# Altium schematic symbol library ACTION_SchematicDiagramPack.SCHLIB: 158 symbols (part 2 of 2)
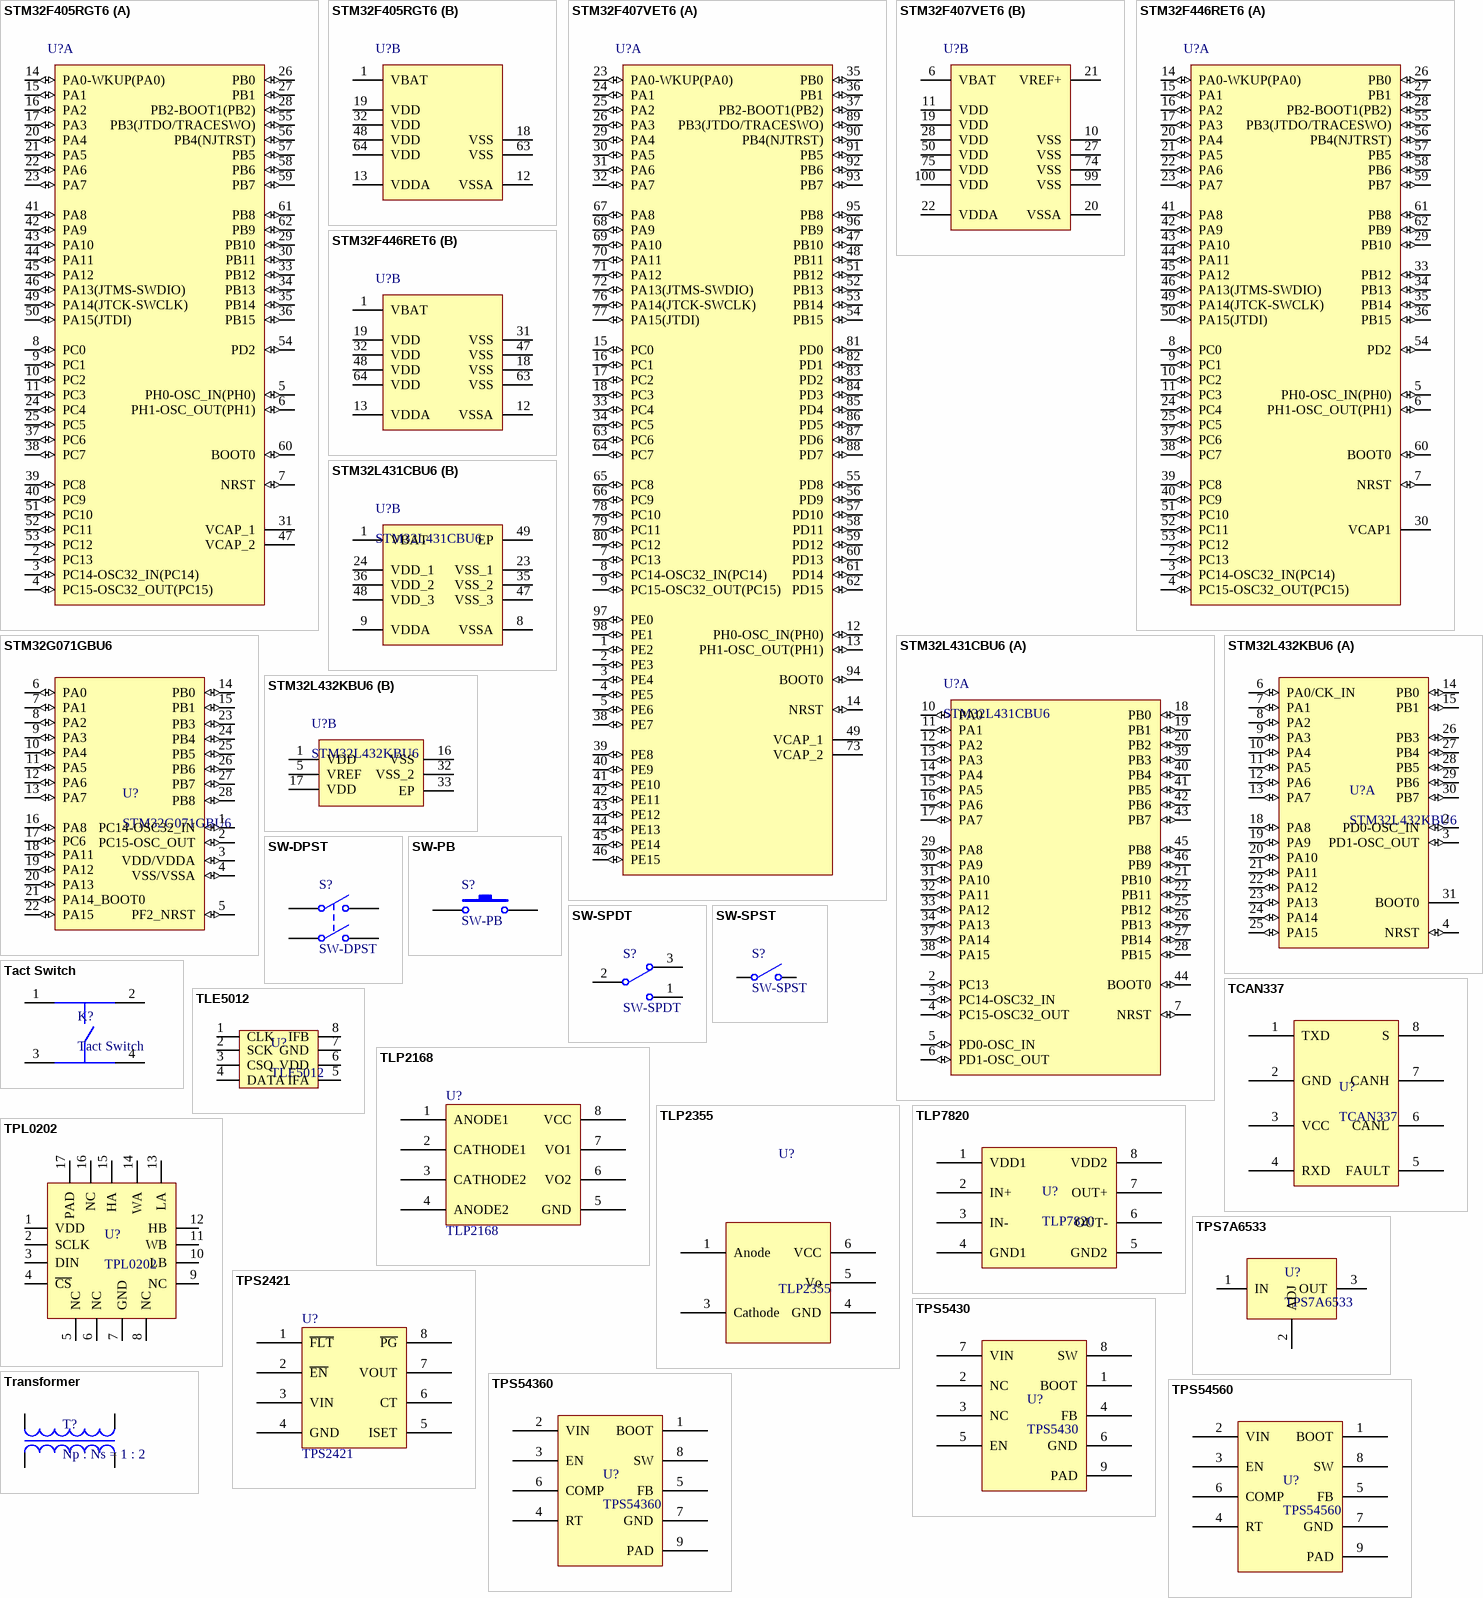
[diagram p6: symbols STM32F405RGT6 to Transformer]

## STM32F446RET6
designator U?
ARM Cortex-M4 32-bit MCU+FPU, 210 DMIPS, 256 kB Flash, 256 kB Internal RAM, 51 I/Os, 64-pin LQFP, -40 to 85 degC, Tray; ComponentLink1Description: Manufacturer URL; ComponentLink1URL: http://www.st.com/web/en/home.html; ComponentLink2Description: Datasheet; ComponentLink2URL: http://www.st.com/st-web-ui/static/active/en/resource/technical/document/datasheet/DM00037051.pdf; ComponentLink3Description: Package Specification; ComponentLink3URL: http://www.st.com/st-web-ui/static/active/en/resource/technical/document/datasheet/DM00037051.pdf
footprint STM-LQFP64_M (Thin QFP, 64-Leads, Body 10x10mm, Pitch 0.5mm, IPC Low Density)
part A pins: 2 PC13 (io) "PC13/EVENTOUT/RTC_OUT,RTC_TAMP1,RTC_TS", 3 PC14-OSC32_IN(PC14) (io) "PC14-OSC32_IN(PC14)/EVENTOUT/OSC32_IN", 4 PC15-OSC32_OUT(PC15) (io) "PC15-OSC32_OUT(PC15)/EVENTOUT/OSC32_OUT", 5 PH0-OSC_IN(PH0) (io) "PH0-OSC_IN(PH0)/EVENTOUT/OSC_IN", 6 PH1-OSC_OUT(PH1) (io) "PH1-OSC_OUT(PH1)/EVENTOUT/OSC_OUT", 7 NRST (io), 8 PC0 (io) "PC0/OTG_HS_ULPI_STP/EVENTOUT/ADC123_IN10", 9 PC1 (io) "PC1/ETH_MDC/EVENTOUT/ADC123_IN11", 10 PC2 (io) "PC2/SPI2_MISO/OTG_HS_ULPI_DIR/ETH_MII_TXD2/I2S2ext_SD/EVENTOUT/ADC123_IN12", 11 PC3 (io) "PC3/SPI2_MOSI/I2S2_SD/OTG_HS_ULPI_NXT/ETH_MII_TX_CLK/EVENTOUT/ADC123_IN13", 14 PA0-WKUP(PA0) (io) "PA0-WKUP(PA0)/USART2_CTS/UART4_TX/ETH_MII_CRS/TIM2_CH1_ETR/TIM5_CH1/TIM8_ETR/EVENTOUT/ADC123_IN0/WKUP", 15 PA1 (io) "PA1/USART2_RTS/UART4_RX/ETH_RMII_REF_CLK/ETH_MII_RX_CLK/TIM5_CH2/TIM2_CH2/EVENTOUT/ADC123_IN1", 16 PA2 (io) "PA2/USART2_TX/TIM5_CH3/TIM9_CH1/TIM2_CH3/ETH_MDIO/EVENTOUT/ADC123_IN2", 17 PA3 (io) "PA3/USART2_RX/TIM5_CH4/TIM9_CH2/TIM2_CH4/OTG_HS_ULPI_D0/ETH_MII_COL/EVENTOUT/ADC123_IN3", 20 PA4 (io) "PA4/SPI1_NSS/SPI3_NSS/USART2_CK/DCMI_HSYNC/OTG_HS_SOF/I2S3_WS/EVENTOUT/ADC12_IN4/DAC_OUT1", 21 PA5 (io) "PA5/SPI1_SCK/OTG_HS_ULPI_CK/TIM2_CH1_ETR/TIM8_CH1N/EVENTOUT/ADC12_IN5/DAC_OUT2", 22 PA6 (io) "PA6/SPI1_MISO/TIM8_BKIN/TIM13_CH1/DCMI_PIXCLK/TIM3_CH1/TIM1_BKIN/EVENTOUT/ADC12_IN6", 23 PA7 (io) "PA7/SPI1_MOSI/TIM8_CH1N/TIM14_CH1/TIM3_CH2/ETH_MII_RX_DV/TIM1_CH1N/ETH_RMII_CRS_DV/EVENTOUT/ADC12_IN7", 24 PC4 (io) "PC4/ETH_RMII_RX_D0/ETH_MII_RX_D0/EVENTOUT/ADC12_IN14", 25 PC5 (io) "PC5/ETH_RMII_RX_D1/ETH_MII_RX_D1/EVENTOUT/ADC12_IN15", 26 PB0 (io) "PB0/TIM3_CH3/TIM8_CH2N/OTG_HS_ULPI_D1/ETH_MII_RXD2/TIM1_CH2N/EVENTOUT/ADC12_IN8", 27 PB1 (io) "PB1/TIM3_CH4/TIM8_CH3N/OTG_HS_ULPI_D2/ETH_MII_RXD3/TIM1_CH3N/EVENTOUT/ADC12_IN9", 28 PB2-BOOT1(PB2) (io) "PB2-BOOT1(PB2)/EVENTOUT", 29 PB10 (io) "PB10/SPI2_SCK/I2S2_CK/I2C2_SCL/USART3_TX/OTG_HS_ULPI_D3/ETH_MII_RX_ER/TIM2_CH3/EVENTOUT", 30 VCAP1 "PB11/I2C2_SDA/USART3_RX/OTG_HS_ULPI_D4/ETH_RMII_TX_EN/ETH_MII_TX_EN/TIM2_CH4/EVENTOUT", 33 PB12 (io) "PB12/SPI2_NSS/I2S2_WS/I2C2_SMBA/USART3_CK/TIM1_BKIN/CAN2_RX/OTG_HS_ULPI_D5/ETH_RMII_TXD0/ETH_MII_TXD0/OTG_HS_ID/EVENTOUT", 34 PB13 (io) "PB13/SPI2_SCK/I2S2_CK/USART3_CTS/TIM1_CH1N/CAN2_TX/OTG_HS_ULPI_D6/ETH_RMII_TXD1/ETH_MII_TXD1/EVENTOUT/OTG_HS_VBUS", 35 PB14 (io) "PB14/SPI2_MISO/TIM1_CH2N/TIM12_CH1/OTG_HS_DM/USART3_RTS/TIM8_CH2N/I2S2ext_SD/EVENTOUT", 36 PB15 (io) "PB15/SPI2_MOSI/I2S2_SD/TIM1_CH3N/TIM8_CH3N/TIM12_CH2/OTG_HS_DP/EVENTOUT/RTC_REFIN", 37 PC6 (io) "PC6/I2S2_MCK/TIM8_CH1/SDIO_D6/USART6_TX/DCMI_D0/TIM3_CH1/EVENTOUT", 38 PC7 (io) "PC7/I2S3_MCK/TIM8_CH2/SDIO_D7/USART6_RX/DCMI_D1/TIM3_CH2/EVENTOUT", 39 PC8 (io) "PC8/TIM8_CH3/SDIO_D0/TIM3_CH3/USART6_CK/DCMI_D2/EVENTOUT", 40 PC9 (io) "PC9/I2S_CKIN/MCO2/TIM8_CH4/SDIO_D1/I2C3_SDA/DCMI_D3/TIM3_CH4/EVENTOUT", 41 PA8 (io) "PA8/MCO1/USART1_CK/TIM1_CH1/I2C3_SCL/OTG_FS_SOF/EVENTOUT", 42 PA9 (io) "PA9/USART1_TX/TIM1_CH2/I2C3_SMBA/DCMI_D0/EVENTOUT/OTG_FS_VBUS", 43 PA10 (io) "PA10/USART1_RX/TIM1_CH3/OTG_FS_ID/DCMI_D1/EVENTOUT", 44 PA11 (io) "PA11/USART1_CTS/CAN1_RX/TIM1_CH4/OTG_FS_DM/EVENTOUT", 45 PA12 (io) "PA12/USART1_RTS/CAN1_TX/TIM1_ETR/OTG_FS_DP/EVENTOUT", 46 PA13(JTMS-SWDIO) (io) "PA13(JTMS-SWDIO)/JTMS-SWDIO/EVENTOUT", 49 PA14(JTCK-SWCLK) (io) "PA14(JTCK-SWCLK)/JTCK-SWCLK/EVENTOUT", 50 PA15(JTDI) (io) "PA15(JTDI)/JTDI/SPI3_NSS/I2S3_WS/TIM2_CH1_ETR/SPI1_NSS/EVENTOUT", 51 PC10 (io) "PC10/SPI3_SCK/I2S3_CK/UART4_TX/SDIO_D2/DCMI_D8/USART3_TX/EVENTOUT", 52 PC11 (io) "PC11/UART4_RX/SPI3_MISO/SDIO_D3/DCMI_D4/USART3_RX/I2S3ext_SD/EVENTOUT", 53 PC12 (io) "PC12/UART5_TX/SDIO_CK/DCMI_D9/SPI3_MOSI/I2S3_SD/USART3_CK/EVENTOUT", 54 PD2 (io) "PD2/TIM3_ETR/UART5_RX/SDIO_CMD/DCMI_D11/EVENTOUT", 55 PB3(JTDO/TRACESWO) (io) "PB3(JTDO/TRACESWO)/JTDO/TRACESWO/SPI3_SCK/I2S3_CK/TIM2_CH2/SPI1_SCK/EVENTOUT", 56 PB4(NJTRST) (io) "PB4(NJTRST)/NJTRST/SPI3_MISO/TIM3_CH1/SPI1_MISO/I2S3ext_SD/EVENTOUT", 57 PB5 (io) "PB5/I2C1_SMBA/CAN2_RX/OTG_HS_ULPI_D7/ETH_PPS_OUT/TIM3_CH2/SPI1_MOSI/SPI3_MOSI/DCMI_D10/I2S3_SD/EVENTOUT", 58 PB6 (io) "PB6/I2C1_SCL/TIM4_CH1/CAN2_TX/DCMI_D5/USART1_TX/EVENTOUT", 59 PB7 (io) "PB7/I2C1_SDA/FSMC_NL/DCMI_VSYNC/USART1_RX/TIM4_CH2/EVENTOUT", 60 BOOT0 (io) "BOOT0/VPP", 61 PB8 (io) "PB8/TIM4_CH3/SDIO_D4/TIM10_CH1/DCMI_D6/ETH_MII_TXD3/I2C1_SCL/CAN1_RX/EVENTOUT", 62 PB9 (io) "PB9/SPI2_NSS/I2S2_WS/TIM4_CH4/TIM11_CH1/SDIO_D5/DCMI_D7/I2C1_SDA/CAN1_TX/EVENTOUT"
part B pins: 1 VBAT (power), 12 VSSA (power), 13 VDDA (power), 18 VSS (power), 19 VDD (power), 31 VSS (power) "VCAP_1", 32 VDD (power), 47 VSS (power) "VCAP_2", 48 VDD (power), 63 VSS (power), 64 VDD (power)

## STM32G071GBU6
designator U?
ARM Cortex-M0 32-bit MCU,  128 kB Flash, 36 kB Internal RAM, 25 I/Os, 28-pin LQFP, -40 to 85 degC, Tray
pins: 1 PC14-OSC32_IN (io) "PD0/OSC_IN/CANRX", 2 PC15-OSC_OUT (io) "PD1/OSC_OUT/CANTX", 3 VDD/VDDA (io) "PD1/OSC_OUT/CANTX", 4 VSS/VSSA (io) "PD1/OSC_OUT/CANTX", 5 PF2_NRST (io) "NRST", 6 PA0 (io) "PA0-WKUP/PA0/WKUP/USART2_CTS/ADC12_IN0/TIM2_CH1_ETR", 7 PA1 (io) "PA1/USART2_RTS/ADC12_IN1/TIM2_CH2", 8 PA2 (io) "PA2/USART2_TX/ADC12_IN2/TIM2_CH3", 9 PA3 (io) "PA3/USART2_RX/ADC12_IN3/TIM2_CH4", 10 PA4 (io) "PA4/SPI1_NSS/USART2_CK/ADC12_IN4", 11 PA5 (io) "PA5/SPI1_SCK/ADC12_IN5", 12 PA6 (io) "PA6/SPI1_MISO/ADC12_IN6/TIM3_CH1/TIM1_BKIN", 13 PA7 (io) "PA7/SPI1_MOSI/ADC12_IN7/TIM3_CH2/TIM1_CH1N", 14 PB0 (io) "PB0/ADC12_IN8/TIM3_CH3/TIM1_CH2N", 15 PB1 (io) "PB1/ADC12_IN9/TIM3_CH4/TIM1_CH3N", 16 PA8 (io) "PA8/USART1_CK/TIM1_CH1/MCO", 17 PC6 (io) "PA8/USART1_CK/TIM1_CH1/MCO", 18 PA11 (io) "PA11/USART1_CTS/CANRX/USBDM/TIM1_CH4", 19 PA12 (io) "PA12/USART1_RTS/CANTX/USBDP/TIM1_ETR", 20 PA13 (io) "PA13/JTMS/SWDIO", 21 PA14_BOOT0 (io) "PA14/JTCK/SWCLK", 22 PA15 (io) "PA15/JTDI/TIM2_CH1_ETR/SPI1_NSS", 23 PB3 (io) "PB3/JTDO/TIM2_CH2/TRACESWO/SPI1_SCK", 24 PB4 (io) "PB4/NJTRST/TIM3_CH1/SPI1_MISO", 25 PB5 (io) "PB5/I2C1_SMBAI/TIM3_CH2/SPI1_MOSI", 26 PB6 (io) "PB6/I2C1_SCL/TIM4_CH1/USART1_TX", 27 PB7 (io) "PB7/I2C1_SDA/TIM4_CH2/USART1_RX", 28 PB8 (io) "PB7/I2C1_SDA/TIM4_CH2/USART1_RX"

## STM32L431CBU6
designator U?
ARM Cortex-M3 32-bit MCU, 256 KB Flash, 64 KB Internal RAM, 37 I/Os, 48-pin UFQFPN48, -40 to 85 degC, Tray
footprint STM-UFQFPN48_M (QFN, 48-Leads, Body 7.1x7.1mm, Pitch 0.5mm, Thermal Pad 5.6x5.6mm, IPC Low Density)
part A pins: 2 PC13 (io) "PC13-TAMPER-RTC/PC13/TAMPER-RTC", 3 PC14-OSC32_IN (io) "PC14-OSC32_IN/PC14/OSC32_IN", 4 PC15-OSC32_OUT (io) "PC15-OSC32_OUT/PC15/OSC32_OUT", 5 PD0-OSC_IN (io) "PD0/OSC_IN", 6 PD1-OSC_OUT (io) "PD1/OSC_OUT", 7 NRST (io), 10 PA0 (io) "PA0-WKUP/PA0/WKUP/USART2_CTS/ADC12_IN0/TIM2_CH1_ETR", 11 PA1 (io) "PA1/USART2_RTS/ADC12_IN1/TIM2_CH2", 12 PA2 (io) "PA2/USART2_TX/ADC12_IN2/TIM2_CH3", 13 PA3 (io) "PA3/USART2_RX/ADC12_IN3/TIM2_CH4", 14 PA4 (io) "PA4/SPI1_NSS/USART2_CK/ADC12_IN4", 15 PA5 (io) "PA5/SPI1_SCK/ADC12_IN5", 16 PA6 (io) "PA6/SPI1_MISO/ADC12_IN6/TIM3_CH1/TIM1_BKIN", 17 PA7 (io) "PA7/SPI1_MOSI/ADC12_IN7/TIM3_CH2/TIM1_CH1N", 18 PB0 (io) "PB0/ADC12_IN8/TIM3_CH3/TIM1_CH2N", 19 PB1 (io) "PB1/ADC12_IN9/TIM3_CH4/TIM1_CH3N", 20 PB2 (io) "PB2/BOOT1", 21 PB10 (io) "PB10/I2C2_SCL/USART3_TX/TIM2_CH3", 22 PB11 (io) "PB11/I2C2_SDA/USART3_RX/TIM2_CH4", 25 PB12 (io) "PB12/SPI2_NSS/I2C2_SMBAl/USART3_CK/TIM1_BKIN", 26 PB13 (io) "PB13/SPI2_SCK/USART3_CTS/TIM1_CH1N", 27 PB14 (io) "PB14/SPI2_MISO/USART3_RTS/TIM1_CH2N", 28 PB15 (io) "PB15/SPI2_MOSI/TIM1_CH3N", 29 PA8 (io) "PA8/USART1_CK/TIM1_CH1/MCO", 30 PA9 (io) "PA9/USART1_TX/TIM1_CH2", 31 PA10 (io) "PA10/USART1_RX/TIM1_CH3", 32 PA11 (io) "PA11/USART1_CTS/CANRX/USBDM/TIM1_CH4", 33 PA12 (io) "PA12/USART1_RTS/CANTX/USBDP/TIM1_ETR", 34 PA13 (io) "PA13/JTMS/SWDIO", 37 PA14 (io) "PA14/JTCK/SWCLK", 38 PA15 (io) "PA15/JTDI/TIM2_CH1_ETR/SPI1_NSS", 39 PB3 (io) "PB3/JTDO/TIM2_CH2/TRACESWO/SPI1_SCK", 40 PB4 (io) "PB4/NJTRST/TIM3_CH1/SPI1_MISO", 41 PB5 (io) "PB5/I2C1_SMBAI/TIM3_CH2/SPI1_MOSI", 42 PB6 (io) "PB6/I2C1_SCL/TIM4_CH1/USART1_TX", 43 PB7 (io) "PB7/I2C1_SDA/TIM4_CH2/USART1_RX", 44 BOOT0 (io), 45 PB8 (io) "PB8/TIM4_CH3/I2C1_SCL/CANRX", 46 PB9 (io) "PB9/TIM4_CH4/I2C1_SDA/CANTX"
part B pins: 1 VBAT (power), 8 VSSA (power), 9 VDDA (power), 23 VSS_1 (power), 24 VDD_1 (power), 35 VSS_2 (power), 36 VDD_2 (power), 47 VSS_3 (power), 48 VDD_3 (power), 49 EP (power) "VSS_1"

## STM32L432KBU6
designator U?
ARM Cortex-M4 32-bit MCU+FPU, 100DMIPS,256 KB Flash, 64 KB Internal RAM, 24 I/Os, 32-pin UFQFPN32, -40 to 85 degC, Tray
part A pins: 2 PD0-OSC_IN (io) "PD0/OSC_IN/CANRX", 3 PD1-OSC_OUT (io) "PD1/OSC_OUT/CANTX", 4 NRST (io), 6 PA0/CK_IN (io) "PA0-WKUP/PA0/WKUP/USART2_CTS/ADC12_IN0/TIM2_CH1_ETR", 7 PA1 (io) "PA1/USART2_RTS/ADC12_IN1/TIM2_CH2", 8 PA2 (io) "PA2/USART2_TX/ADC12_IN2/TIM2_CH3", 9 PA3 (io) "PA3/USART2_RX/ADC12_IN3/TIM2_CH4", 10 PA4 (io) "PA4/SPI1_NSS/USART2_CK/ADC12_IN4", 11 PA5 (io) "PA5/SPI1_SCK/ADC12_IN5", 12 PA6 (io) "PA6/SPI1_MISO/ADC12_IN6/TIM3_CH1/TIM1_BKIN", 13 PA7 (io) "PA7/SPI1_MOSI/ADC12_IN7/TIM3_CH2/TIM1_CH1N", 14 PB0 (io) "PB0/ADC12_IN8/TIM3_CH3/TIM1_CH2N", 15 PB1 (io) "PB1/ADC12_IN9/TIM3_CH4/TIM1_CH3N", 18 PA8 (io) "PA8/USART1_CK/TIM1_CH1/MCO", 19 PA9 (io) "PA9/USART1_TX/TIM1_CH2", 20 PA10 (io) "PA10/USART1_RX/TIM1_CH3", 21 PA11 (io) "PA11/USART1_CTS/CANRX/USBDM/TIM1_CH4", 22 PA12 (io) "PA12/USART1_RTS/CANTX/USBDP/TIM1_ETR", 23 PA13 (io) "PA13/JTMS/SWDIO", 24 PA14 (io) "PA14/JTCK/SWCLK", 25 PA15 (io) "PA15/JTDI/TIM2_CH1_ETR/SPI1_NSS", 26 PB3 (io) "PB3/JTDO/TIM2_CH2/TRACESWO/SPI1_SCK", 27 PB4 (io) "PB4/NJTRST/TIM3_CH1/SPI1_MISO", 28 PB5 (io) "PB5/I2C1_SMBAI/TIM3_CH2/SPI1_MOSI", 29 PB6 (io) "PB6/I2C1_SCL/TIM4_CH1/USART1_TX", 30 PB7 (io) "PB7/I2C1_SDA/TIM4_CH2/USART1_RX", 31 BOOT0
part B pins: 1 VDD (power) "VDD_1", 5 VREF (power) "VDD_2", 16 VSS (power) "VSS_1", 17 VDD (power) "VDD_3", 32 VSS_2 (power), 33 EP (power)

## SW-DPST
designator S?
Double-Pole, Single-Throw Switch; Published: 24-Mar-1999; LatestRevisionDate: 17-Jul-2002; LatestRevisionNote: Re-released for DXP Platform.; PackageReference: DPST-4; Publisher: Altium Limited
pins: 1 COMMON1, 2 NO1, 3 COMMON2, 4 NO2

## SW-PB
designator S?
Switch; Published: 24-Mar-1999; LatestRevisionDate: 17-Jul-2002; LatestRevisionNote: Re-released for DXP Platform.; PackageReference: SPST-2; Publisher: Altium Limited
pins: 1, 2

## SW-SPDT
designator S?
SPDT Subminiature Toggle Switch, Right Angle Mounting, Vertical Actuation; Published: 24-Mar-1999; LatestRevisionDate: 17-Dec-2003; LatestRevisionNote: Schematic revised, PCB Footprint replaced.; DatasheetDocument: 05-Dec-2000; PackageReference: TL36WW15050; Publisher: Altium Limited; ComponentLink1Description: Manufacturer Link; ComponentLink1URL: http://www.apem.com
pins: 1, 2, 3

## SW-SPST
designator S?
Single-Pole, Single-Throw Switch; Published: 24-Mar-1999; LatestRevisionDate: 17-Jul-2002; LatestRevisionNote: Re-released for DXP Platform.; PackageReference: SPST-2; Publisher: Altium Limited
pins: 1 COMMON, 2 NO

## Tact Switch
designator K?
轻触开关(4Pin)
pins: 1, 2, 3, 4

## TCAN337
designator U?
CAN收发器
footprint SOT-238
pins: 1 TXD, 2 GND, 3 VCC, 4 RXD, 5 FAULT, 6 CANL, 7 CANH, 8 S

## TLE5012
designator U?
磁编码器
footprint SOP-8(无散热焊盘) (SOP, 8-Leads, Body 5.0x4.0mm (max), Pitch 1.27mm, IPC Medium Density)
pins: 1 CLK, 2 SCK, 3 CSQ, 4 DATA, 5 IFA, 6 VDD, 7 GND, 8 IFB

## TLP2168
designator U?
高速光耦，(LED  ON,  OUTPUT  LOW)  Supply voltage: 2.7 to 5.5 V        Data transfer rate: 20 MBd (typ.)(NRZ)      Threshold input current: 5.0 mA (max)     Supply current: 8 mA (max)        Isolation voltage: 2500 Vrms (min)
footprint SOIC-8 (SOIC, 8-Leads, Body 5.0x4.0mm (max), Pitch 1.27mm, IPC Medium Density)
pins: 1 ANODE1, 2 CATHODE1, 3 CATHODE2, 4 ANODE2, 5 GND, 6 VO2, 7 VO1, 8 VCC

## TLP2355
designator U?
高速光耦
footprint SO-5
pins: 1 Anode, 3 Cathode, 4 GND, 5 Vo, 6 VCC

## TLP7820
designator U?
隔离放大器
footprint SO-8(7.5mm)
pins: 1 VDD1, 2 IN+, 3 IN-, 4 GND1, 5 GND2, 6 OUT-, 7 OUT+, 8 VDD2

## TPL0202
designator U?
数字电位器
footprint WQFN-16
pins: 1 VDD, 2 SCLK, 3 DIN, 4 ~{CS}, 5 NC, 6 NC, 7 GND, 8 NC, 9 NC, 10 LB, 11 WB, 12 HB, 13 LA, 14 WA, 15 HA, 16 NC, 17 PAD

## TPS7A6533
designator U?
线性稳压器
footprint TO-252
pins: 1 IN, 2 ADJ, 3 OUT

## TPS2421
designator U?
footprint SOIC-8 (SOIC, 8-Leads, Body 5.0x4.0mm (max), Pitch 1.27mm, IPC Medium Density)
pins: 1 ~{FLT}, 2 ~{EN}, 3 VIN, 4 GND, 5 ISET, 6 CT, 7 VOUT, 8 ~{PG}

## TPS5430
designator U?
Buck
footprint HSOIC-8
pins: 1 BOOT, 2 NC, 3 NC, 4 FB, 5 EN, 6 GND, 7 VIN, 8 SW, 9 PAD

## TPS54360
designator U?
Buck
footprint HSOIC-8
pins: 1 BOOT, 2 VIN, 3 EN, 4 RT, 5 FB, 6 COMP, 7 GND, 8 SW, 9 PAD

## TPS54560
designator U?
Buck
footprint HSOIC-8
pins: 1 BOOT, 2 VIN, 3 EN, 4 RT, 5 FB, 6 COMP, 7 GND, 8 SW, 9 PAD

## Transformer
designator T?, comment Np : Ns = 1 : 2
Transformer
pins: 1, 2, 3, 4

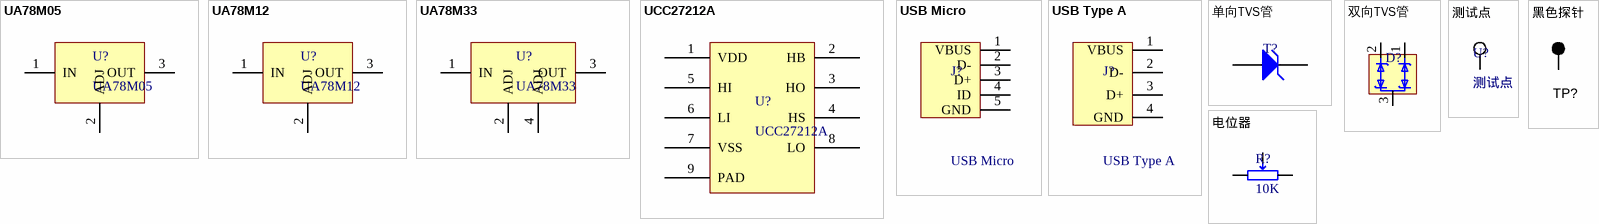
[diagram p5: symbols UA78M05 to 黑色探针]

## UA78M05
designator U?
LDO
footprint TO-252
pins: 1 IN, 2 ADJ, 3 OUT

## UA78M12
designator U?
LDO
footprint TO-252
pins: 1 IN, 2 ADJ, 3 OUT

## UA78M33
designator U?
LDO
footprint SOT-223
pins: 1 IN, 2 ADJ, 3 OUT, 4 ADJ

## UCC27212A
designator U?
半桥驱动器
footprint HSOIC-8
pins: 1 VDD, 2 HB, 3 HO, 4 HS, 5 HI, 6 LI, 7 VSS, 8 LO, 9 PAD

## USB Micro
designator J?
footprint USB Micro
pins: 1 VBUS, 2 D-, 3 D+, 4 ID, 5 GND

## USB Type A
designator J?
footprint USB-Type A
pins: 1 VBUS, 2 D-, 3 D+, 4 GND

## 单向TVS管
designator T?
footprint SOD-323
pins: 1 A, 2 K

## 双向TVS管
designator D?  (value not drawn)
footprint SOT-233
pins: 1, 2, 3

## 测试点
designator U?
footprint 测试点
pins: 1

## 电位器
designator R?, comment 10K
footprint 可调电位器
pins: 1, 2, 3

## 黑色探针
designator TP?
pins: 1